# EAGLE library part 4580DD (library 4580DD)
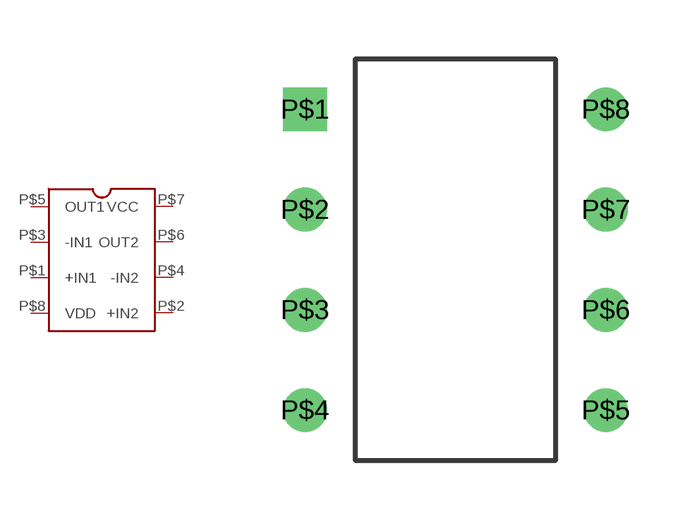
[diagram p0: symbol with the pads of 4580DD; footprint 4580DD]

Designator prefix -

## 4580DD  [4580DD]
P$1  +IN1
P$2  +IN2
P$3  -IN1
P$4  -IN2
P$5  OUT1
P$6  OUT2
P$7  VCC
P$8  VDD

## Footprint 4580DD (pad centres in mm)
drill 0.6 square: P$1 -3.81,5.08
drill 0.6: P$2 -3.81,2.54; P$3 -3.81,0; P$4 -3.81,-2.54; P$5 3.81,-2.54; P$6 3.81,0; P$7 3.81,2.54; P$8 3.81,5.08